# Altium schematic symbol library NRF.SchLib: 1 symbol
Pins are listed as number, name and electrical type; pins without a type are passive.

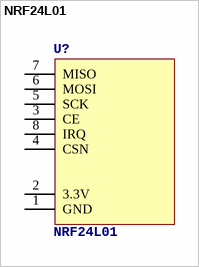
[diagram p0: symbol NRF24L01]

## NRF24L01
designator U?
footprint NRF24L01 (NRF24L01 module)
pins: 1 GND (power), 2 3.3V (power), 3 CE, 4 CSN, 5 SCK, 6 MOSI, 7 MISO, 8 IRQ